# EAGLE library part ARDUINOR3 (library rseries)
This is a new object for the new Arduino R3 - with extra pins that you may want to use (such as IOref, and duplicated A4/A5
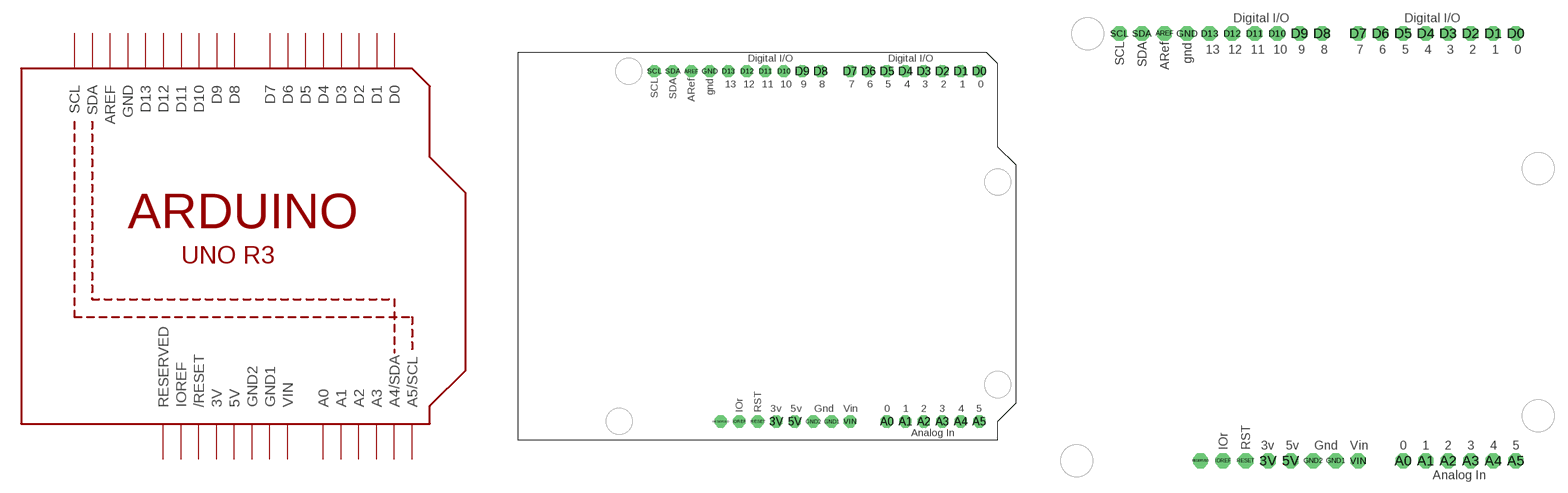
[diagram p0: symbol with the pads of ARDUINOR3; footprints ARDUINOR3, ARDUINOR3-PINSONLY]

Designator prefix U

## ARDUINOR3-DIMENSION  [ARDUINOR3]
3V  3V  pwr
5V  5V  pwr
A0  A0
A1  A1
A2  A2
A3  A3
A4  A4/SDA
A5  A5/SCL
AREF  AREF
D0  D0
D1  D1
D2  D2
D3  D3
D4  D4
D5  D5
D6  D6
D7  D7
D8  D8
D9  D9
D10  D10
D11  D11
D12  D12
D13  D13
GND  GND  pwr
GND1  GND1  pwr
GND2  GND2  pwr
IOREF  IOREF  out
RESERVED  RESERVED  nc
RESET  /RESET
SCL  SCL
SDA  SDA
VIN  VIN  pwr

## ARDUINOR3PINSONLY  [ARDUINOR3-PINSONLY]
Pads as for ARDUINOR3

## Footprint ARDUINOR3 (pad centres in mm)
The new Arduino R3 'classic' adds duplicate I2C pins and an IORef pin (and an unused pin
drill 1 pad 1.676 octagon: 3V 35.56,2.54; 5V 38.1,2.54; A0 50.8,2.54; A1 53.34,2.54; A2 55.88,2.54; A3 58.42,2.54; A4 60.96,2.54; A5 63.5,2.54; AREF 23.876,50.8; D0 63.5,50.8; D1 60.96,50.8; D2 58.42,50.8; D3 55.88,50.8; D4 53.34,50.8; D5 50.8,50.8; D6 48.26,50.8; D7 45.72,50.8; D8 41.656,50.8; D9 39.116,50.8; D10 36.576,50.8; D11 34.036,50.8; D12 31.496,50.8; D13 28.956,50.8; GND 26.416,50.8; GND1 43.18,2.54; GND2 40.64,2.54; IOREF 30.48,2.54; RESERVED 27.94,2.54; RESET 33.02,2.54; SCL 18.796,50.8; SDA 21.336,50.8; VIN 45.72,2.54

## Footprint ARDUINOR3-PINSONLY (pad centres in mm)
drill 1 pad 1.676 octagon: 3V 36.83,3.81; 5V 39.37,3.81; A0 52.07,3.81; A1 54.61,3.81; A2 57.15,3.81; A3 59.69,3.81; A4 62.23,3.81; A5 64.77,3.81; AREF 25.146,52.07; D0 64.77,52.07; D1 62.23,52.07; D2 59.69,52.07; D3 57.15,52.07; D4 54.61,52.07; D5 52.07,52.07; D6 49.53,52.07; D7 46.99,52.07; D8 42.926,52.07; D9 40.386,52.07; D10 37.846,52.07; D11 35.306,52.07; D12 32.766,52.07; D13 30.226,52.07; GND 27.686,52.07; GND1 44.45,3.81; GND2 41.91,3.81; IOREF 31.75,3.81; RESERVED 29.21,3.81; RESET 34.29,3.81; SCL 20.066,52.07; SDA 22.606,52.07; VIN 46.99,3.81